# Altium schematic symbol library AC(DC)-DC.SchLib: 2 symbols
Pins are listed as number, name and electrical type; pins without a type are passive.

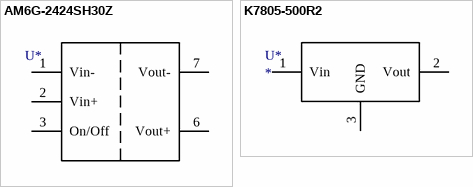
[diagram p0: symbols AM6G-2424SH30Z to K7805-500R2]

## AM6G-2424SH30Z
designator U*  (value not drawn)
footprint AM6G
pins: 1 Vin-, 2 Vin+, 3 On/Off, 6 Vout+, 7 Vout-

## K7805-500R2
designator U*
footprint K7805-500R2
pins: 1 Vin, 2 Vout, 3 GND